# Altium schematic symbol library OPA2277AIDRMT.SchLib: 1 symbol
Pins are listed as number, name and electrical type; pins without a type are passive.

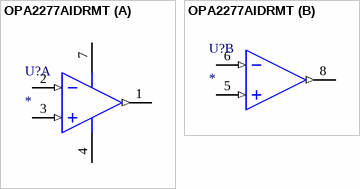
[diagram p0: symbol OPA2277AIDRMT]

## OPA2277AIDRMT
designator U?
OPAx277 High Precision Operational Amplifiers
part A pins: 1 OUT A (out), 2 -INA (in), 3 +INA (in), 4 V- (power), 7 V+ (power), 9 EP (power)
part B pins: 5 +INB (in), 6 -INB (in), 8 OUTB (out)